# Altium integrated library MCP2551-I_SN.IntLib: 1 symbol
Pins are listed as number, name and electrical type; pins without a type are passive.

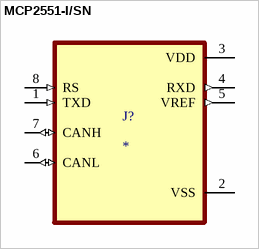
[diagram p0: symbol MCP2551-I/SN]

## MCP2551-I/SN
designator J?
MP: MCP2551-I/SN; Package: None; Price: None; Availability: Unavailable; Value: *
footprint SOIC127P599X175-8N
pins: 1 TXD (in), 2 VSS (power), 3 VDD (power), 4 RXD (out), 5 VREF (out), 6 CANL (io), 7 CANH (io), 8 RS (in)